# Altium footprint library CUI_TB004-508-02BE.PcbLib: 1 footprints
Each footprint in its own frame and in the unit in brackets; x right, y up, seen from the top. Pads: shape width x height; smd on the part's side, far side on the other; paste and mask are expansions set on the pad; w line width, h text height; cw(c..) or ccw(c..) is an arc to the next point about the centre after c.
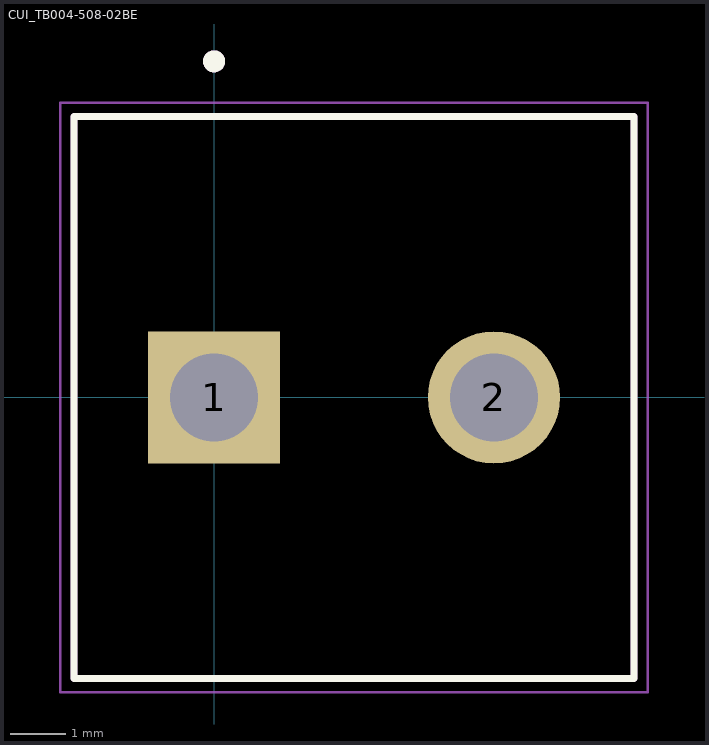
[diagram p0: the footprint, top view; thin cyan lines are the x and y axes]

## CUI_TB004-508-02BE [mm]
pads (2):
  rect 2.4x2.4 / inner round 2.4 / far side rect 2.4x2.4 hole 1.6: 1(0,0)
  round 2.4 hole 1.6: 2(5.08,0)
Top Overlay:
  circle w0.2: c0,6.1 r0.1
  lines w0.127: -2.54,-5.1 7.62,-5.1 7.62,5.1 -2.54,5.1 -2.54,-5.1
Assembly Top:
  circle w0.2: c0,6.1 r0.1
  lines w0.127: -2.54,-5.1 7.62,-5.1 7.62,5.1 -2.54,5.1 -2.54,-5.1
Courtyard Top:
  lines w0.05: -2.79,-5.35 -2.79,5.35 7.87,5.35 7.87,-5.35 -2.79,-5.35
3D body "step_temp.STEP": height 14.1, standoff -3.5, extent -3.267,-4.953 7.493,5.247